# Altium schematic symbol library HEF4081BT.SchLib: 1 symbol
Pins are listed as number, name and electrical type; pins without a type are passive.

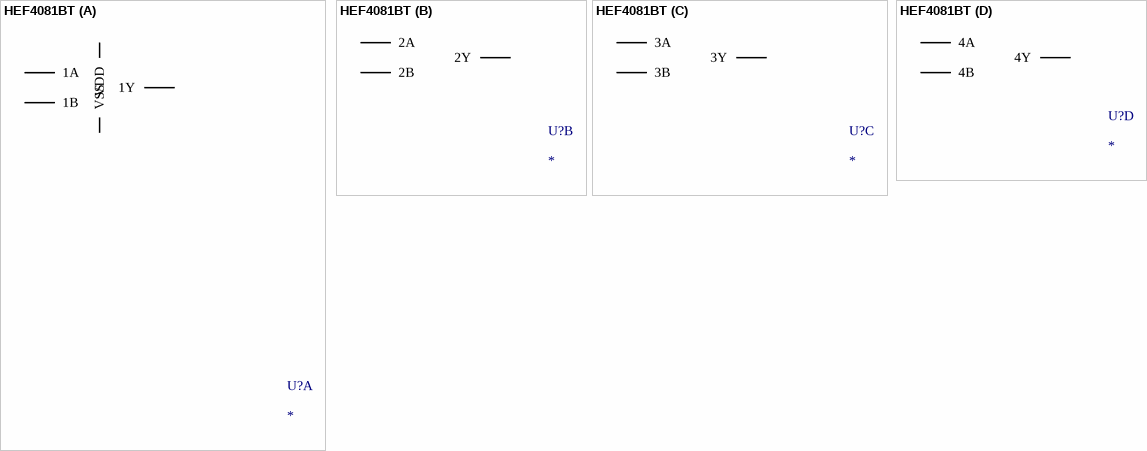
[diagram p0: symbol HEF4081BT]

## HEF4081BT
designator U?
HEF4081BT
part A pins: 1 1A, 2 1B, 3 1Y, 7 VSS, 14 VDD (power)
part B pins: 4 2Y, 5 2A, 6 2B
part C pins: 8 3A, 9 3B, 10 3Y
part D pins: 11 4Y, 12 4A, 13 4B